# EAGLE library part TPS63021DSJR (library SGC)
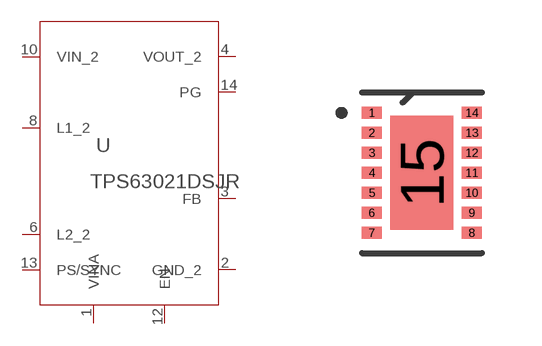
[diagram p1: symbol with the pads of R-PVSON-N14; footprint R-PVSON-N14]

Designator prefix -

## TPS63021DSJR (DATASHEETURL: http://www.ti.com/lit/ds/symlink/tps63020.pdf; FREQUENCY: 2400000.0; IMAX: 3.0; MANUFACTURER_NAME: Texas Instruments; MANUFACTURER_PART_NUMBER: TPS63021DSJR; MKTG_PACKAGE: TPS63020; NSID: TPS63021DSJR; PACKAGE: TPS63020; VENDOR: Texas Instruments)  [R-PVSON-N14]
1  VINA  pas
2  GND_2  pas
3  FB  pas
4  VOUT_2  pas
6  L2_2  pas
8  L1_2  pas
10  VIN_2  pas
12  EN  pas
13  PS/SYNC  pas
14  PG  pas

## Footprint R-PVSON-N14 (pad centres in mm)
smd 0.508 x 0.305: 1 -1.25,1.5; 2 -1.25,1; 3 -1.25,0.5; 4 -1.25,0; 5 -1.25,-0.5; 6 -1.25,-1; 7 -1.25,-1.5; 8 1.25,-1.5; 9 1.25,-1; 10 1.25,-0.5; 11 1.25,0; 12 1.25,0.5; 13 1.25,1; 14 1.25,1.5
smd 1.575 x 2.845: 15 0,0